# Altium footprint library L1I00850090200000.PcbLib: 1 footprints
Each footprint in its own frame and in the unit in brackets; x right, y up, seen from the top. Pads: shape width x height; smd on the part's side, far side on the other; paste and mask are expansions set on the pad; w line width, h text height; cw(c..) or ccw(c..) is an arc to the next point about the centre after c.
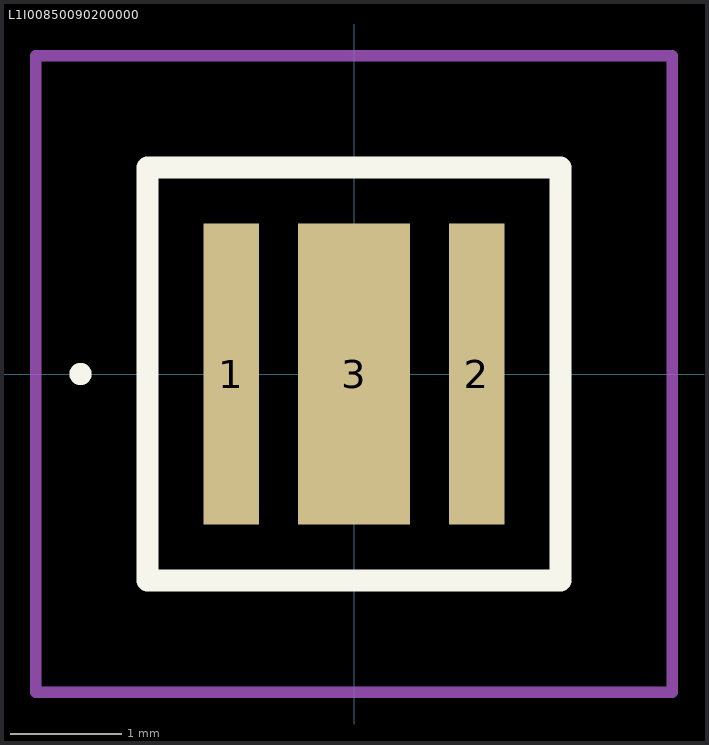
[diagram p0: the footprint, top view; thin cyan lines are the x and y axes]

## L1I00850090200000 [mm]
pads (3):
  rect 0.5x2.7 smd: 1(-1.1,0) 2(1.1,0)
  rect 1x2.7 smd: 3(0,0)
Top Overlay:
  lines w0.1: -2.5,0 cw(c-2.45,0) -2.4,0 ; -2.5,0 -2.5,0 ; -2.5,0 ccw(c-2.45,0) -2.4,0 ; -2.4,0 -2.4,0
  lines w0.2: -1.85,-1.85 1.85,-1.85 1.85,1.85 -1.85,1.85 -1.85,-1.85
Mechanical 15:
  lines w0.1: -1.85,-1.85 1.85,-1.85 1.85,1.85 -1.85,1.85 -1.85,-1.85
Mechanical 20:
  lines w0.1: -2.85,-2.85 2.85,-2.85 2.85,2.85 -2.85,2.85 -2.85,-2.85